# Altium footprint library DO-214AC.PcbLib: 1 footprints
Each footprint in its own frame and in the unit in brackets; x right, y up, seen from the top. Pads: shape width x height; smd on the part's side, far side on the other; paste and mask are expansions set on the pad; w line width, h text height; cw(c..) or ccw(c..) is an arc to the next point about the centre after c.
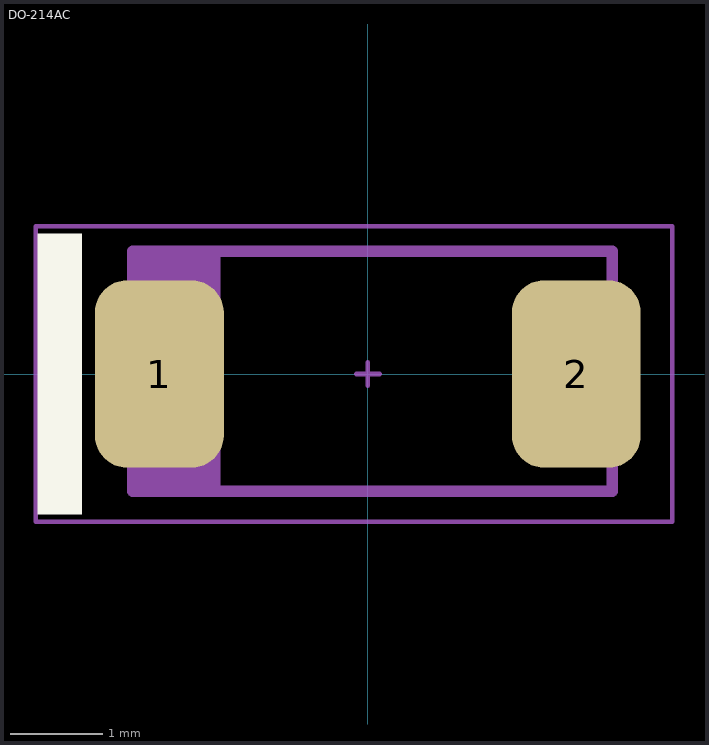
[diagram p0: the footprint, top view; thin cyan lines are the x and y axes]

## DO-214AC [mil] "DO-214A;SMA"
pads (2):
  rrect50% 55x80 smd mask+1.97: 1(-89,0) 2(89,0)
Top Overlay:
  region: -122.05,60 -141.03,60 -141.03,-60 -122.05,-60
Top Assembly:
  rectangle: -100.36,-51.18 -62.99,52.36
  lines w5: -100.36,-50 104.36,-50 104.36,52.36 -100.36,52.36 -100.36,-50
Top Courtyard:
  lines w1.97: -5,0 5,0 ; 0,-5 0,5 ; -141.73,-62.99 129.92,-62.99 129.92,62.99 -141.73,62.99 -141.73,-62.99
3D body "SW3dPS-DO-214AC SMA.STEP": height 95.19, standoff 0.6, extent -100.36,-50 104.36,52.37